# Altium schematic symbol library Comparator.SchLib: 2 symbols
Pins are listed as number, name and electrical type; pins without a type are passive.

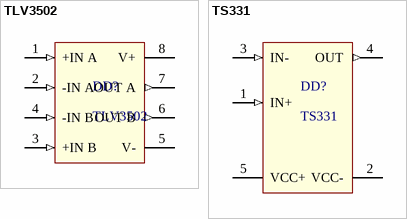
[diagram p0: symbols TLV3502 to TS331]

## TLV3502
designator DD?
pins: 1 +IN A (in), 2 -IN A (in), 3 +IN B (in), 4 -IN B (in), 5 V- (power), 6 OUT B (out), 7 OUT A (out), 8 V+ (power)

## TS331
designator DD?
Manufacturer: STMicro; Part number: TS331
footprint SOT23-5 (DBV0005A, DS90LT012A) (SOT23, 5-Leads, Body 2.90x2.80mm, Pitch 0.95mm, IPC Medium Density)
pins: 1 IN+ (in), 2 VCC- (power), 3 IN- (in), 4 OUT (out), 5 VCC+ (power)